# Altium footprint library LPC824+RC663.PcbLib: 34 footprints (part 2 of 3)
Each footprint in its own frame and in the unit in brackets; x right, y up, seen from the top. Pads: shape width x height; smd on the part's side, far side on the other; paste and mask are expansions set on the pad; w line width, h text height; cw(c..) or ccw(c..) is an arc to the next point about the centre after c.
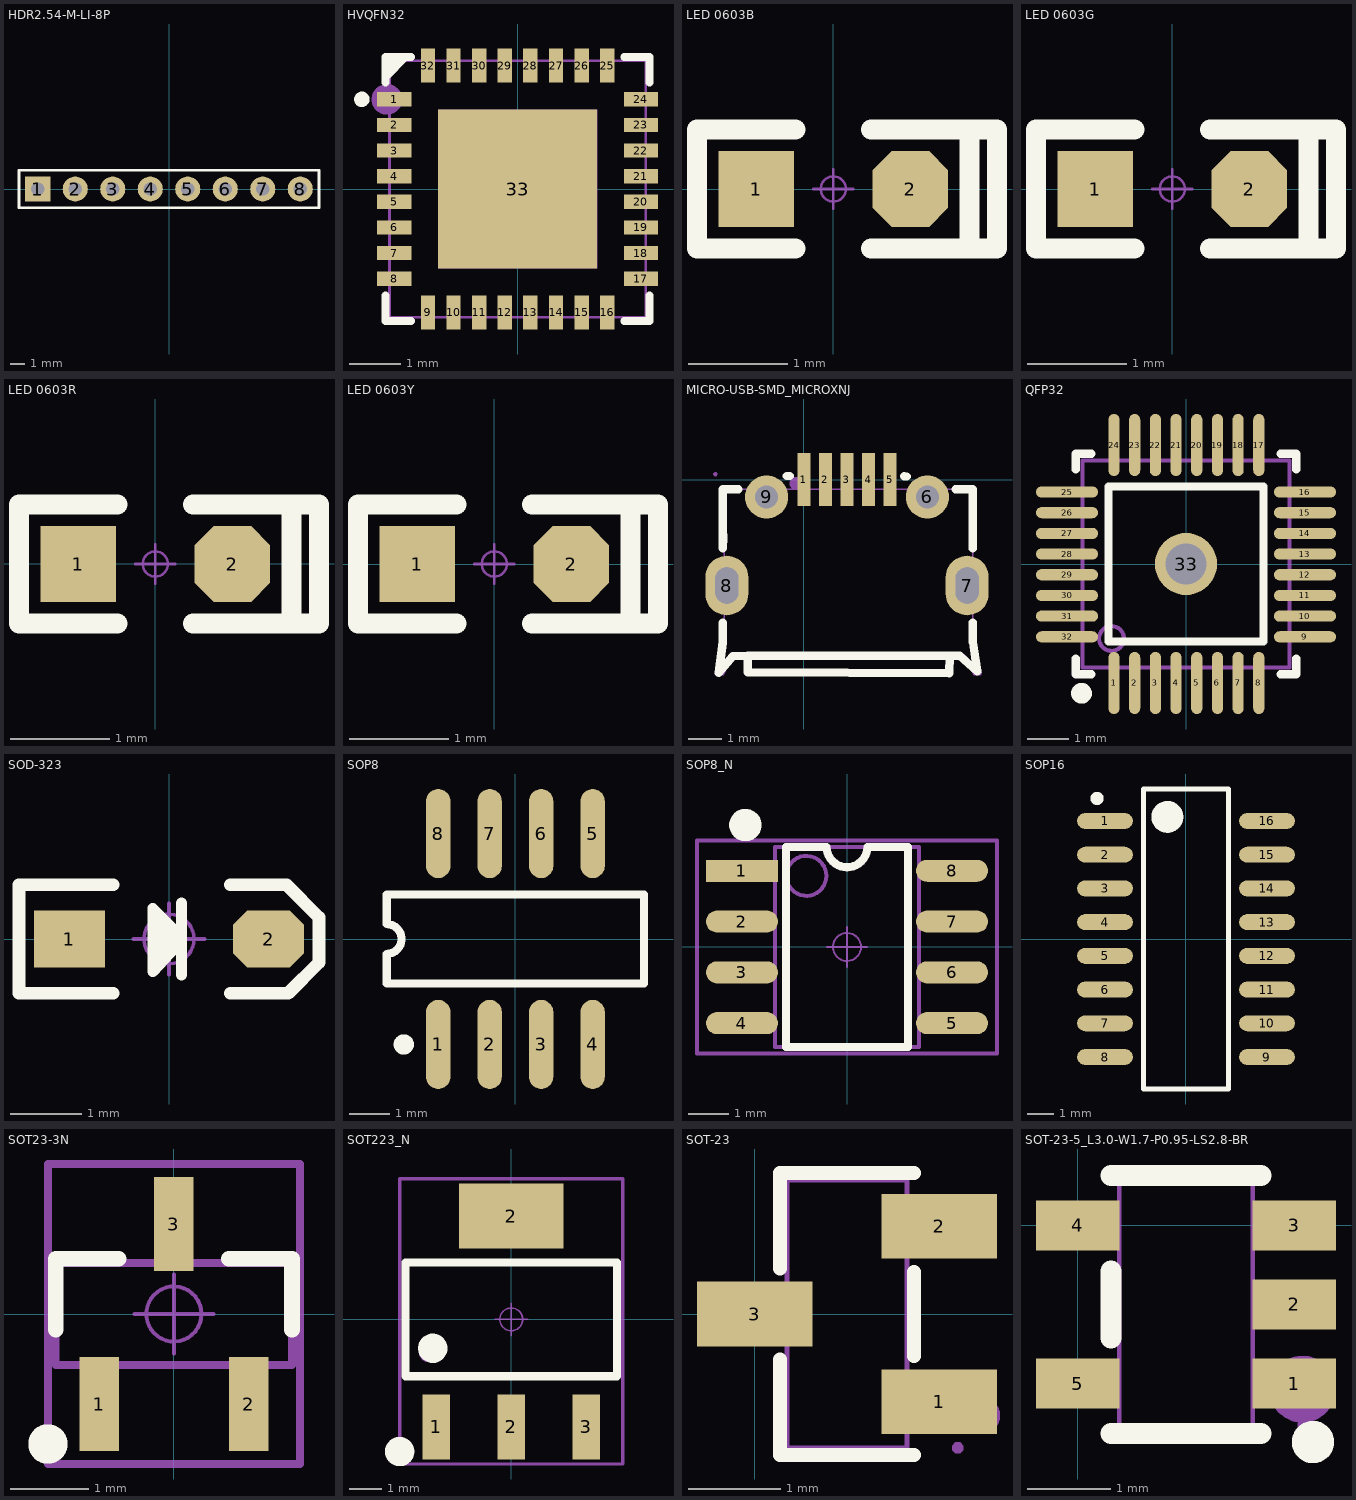
[diagram p1: the footprints below, top view; thin cyan lines are the x and y axes]

## HDR2.54-M-LI-8P [mm] "排母，8脚"
pads (8):
  rect 1.7x1.7 hole 0.9: 1(-8.89,0)
  round 1.7 hole 0.9: 2(-6.35,0) 3(-3.81,0) 4(-1.27,0) 5(1.27,0) 6(3.81,0) 7(6.35,0) 8(8.89,0)
Top Overlay:
  lines w0.2: -10.16,-1.27 -10.16,1.27 10.16,1.27 10.16,-1.27 -10.16,-1.27
3D body "HDR2.54-1P_M.STEP": height 8.5, standoff -3, extent 5.08,-1.27 7.62,1.27
3D body "HDR2.54-1P_M.STEP": height 8.5, standoff -3, extent 0,-1.27 2.54,1.27
3D body "HDR2.54-1P_M.STEP": height 8.5, standoff -3, extent -2.54,-1.27 0,1.27
3D body "HDR2.54-1P_M.STEP": height 8.5, standoff -3, extent 2.54,-1.27 5.08,1.27
3D body "HDR2.54-1P_M.STEP": height 8.5, standoff -3, extent -7.62,-1.27 -5.08,1.27
3D body "HDR2.54-1P_M.STEP": height 8.5, standoff -3, extent -10.16,-1.27 -7.62,1.27
3D body "HDR2.54-1P_M.STEP": height 8.5, standoff -3, extent -5.08,-1.27 -2.54,1.27
3D body "HDR2.54-1P_M.STEP": height 8.5, standoff -3, extent 7.62,-1.27 10.16,1.27

## HVQFN32 [mm]
pads (33):
  rect 0.665x0.28 smd paste-100 mask+0.051: 1(-2.407,1.75) 2(-2.407,1.25) 3(-2.407,0.75) 4(-2.407,0.25) 5(-2.407,-0.25) 6(-2.407,-0.75) 7(-2.407,-1.25) 8(-2.407,-1.75) 17(2.407,-1.75) 18(2.407,-1.25) 19(2.407,-0.75) 20(2.407,-0.25) 21(2.407,0.25) 22(2.407,0.75) 23(2.407,1.25) 24(2.407,1.75)
  rect 0.28x0.665 smd paste-100 mask+0.051: 9(-1.75,-2.407) 10(-1.25,-2.407) 11(-0.75,-2.407) 12(-0.25,-2.407) 13(0.25,-2.407) 14(0.75,-2.407) 15(1.25,-2.407) 16(1.75,-2.407) 25(1.75,2.407) 26(1.25,2.407) 27(0.75,2.407) 28(0.25,2.407) 29(-0.25,2.407) 30(-0.75,2.407) 31(-1.25,2.407) 32(-1.75,2.407)
  rect 3.1x3.1 smd paste-100 mask+0.051: 33(0,0)
Top Overlay:
  circle w0.15: c-3.04,1.75 r0.075
  region: -2.576,2.08 -2.08,2.576 -2.5,2.576 -2.576,2.5
  lines w0.152: -2.576,-2.08 -2.576,-2.576 -2.08,-2.576 ; -2.576,2.08 -2.576,2.576 -2.08,2.576 ; 2.08,-2.576 2.576,-2.576 2.576,-2.08 ; 2.08,2.576 2.576,2.576 2.576,2.08
Top Paste:
  drawing of 33 lines, arcs and shapes, not listed
Mechanical 6:
  circle w0.3: c-2.55,1.75 r0.15
Mechanical 15:
  drawing of 38 lines, arcs and shapes, not listed

## LED 0603B [mil] "蓝色0603LED"
pads (2):
  rect 30x30 smd: 1(-30.59,0)
  oct 30x30 smd: 2(30.59,0)
Top Overlay:
  lines w8: -15,-23.62 -54.13,-23.62 -54.13,23.62 -15,23.62 ; 15,-23.62 65,-23.62 65,23.62 15,23.62 ; 54.13,-23.62 54.13,23.62
Mechanical 15:
  circle w1: c0,0 r5
  lines w1: -7.87,0 7.87,0 ; 0,-7.87 0,7.88
3D body "LED 0603玻璃罩.STEP": height 23.82, standoff 8.07, extent -23.63,-15.75 23.62,15.75
3D body "LED 0603-B.STEP": height 18.36, standoff -0.16, extent -31.49,-15.78 31.5,15.79

## LED 0603G [mil] "绿色0603LED"
pads (2):
  rect 30x30 smd: 1(-30.59,0)
  oct 30x30 smd: 2(30.59,0)
Top Overlay:
  lines w8: -15,-23.62 -54.13,-23.62 -54.13,23.63 -15,23.63 ; 15,-23.62 65,-23.62 65,23.63 15,23.63 ; 54.14,-23.62 54.14,23.63
Mechanical 15:
  circle w1: c0,0 r5
  lines w1: -7.87,0 7.88,0 ; 0,-7.87 0,7.88
3D body "LED 0603玻璃罩.STEP": height 23.82, standoff 8.07, extent -23.62,-15.75 23.62,15.74
3D body "LED 0603-G.STEP": height 18.36, standoff -0.16, extent -31.49,-15.79 31.5,15.79

## LED 0603R [mil] "红色0603LED"
pads (2):
  rect 30x30 smd: 1(-30.59,0)
  oct 30x30 smd: 2(30.59,0)
Top Overlay:
  lines w8: -15.01,-23.63 -54.14,-23.63 -54.14,23.62 -15.01,23.62 ; 14.99,-23.63 65,-23.63 65,23.62 14.99,23.62 ; 54.13,-23.63 54.13,23.62
Mechanical 15:
  circle w1: c0,0 r5
  lines w1: -7.88,0 7.87,0 ; 0,-7.88 0,7.87
3D body "LED 0603玻璃罩.STEP": height 23.82, standoff 8.07, extent -23.63,-15.75 23.62,15.74
3D body "LED 0603-R.STEP": height 18.36, standoff -0.16, extent -31.49,-15.78 31.5,15.79

## LED 0603Y [mil] "黄色0603LED"
pads (2):
  rect 30x30 smd: 1(-30.59,0)
  oct 30x30 smd: 2(30.59,0)
Top Overlay:
  lines w8: -15,-23.62 -54.13,-23.62 -54.13,23.62 -15,23.62 ; 15,-23.62 65,-23.62 65,23.62 15,23.62 ; 54.13,-23.62 54.13,23.62
Mechanical 15:
  circle w1: c0,0 r5
  lines w1: -7.87,0 7.87,0 ; 0,-7.87 0,7.87
3D body "LED 0603-Y.STEP": height 18.36, standoff -0.16, extent -31.5,-16.04 31.5,15.54
3D body "LED 0603玻璃罩.STEP": height 23.82, standoff 8.07, extent -23.63,-15.75 23.62,15.74

## MICRO-USB-SMD_MICROXNJ [mm]
pads (9):
  rect 0.4x1.6 smd paste-100 mask+0.051: 1(0,0) 2(0.65,0) 3(1.3,0) 4(1.95,0) 5(2.6,0)
  round 1.3 hole 0.7: 6(3.725,-0.523) 9(-1.125,-0.523)
  oval 1.3x1.8 hole 0.7 slot 1.1 at 90 deg: 7(4.925,-3.193) 8(-2.325,-3.193)
Top Overlay:
  lines w0.254: -2.445,-4.316 -2.445,-4.912 -2.57,-5.826 -2.15,-5.331 -1.7,-5.311 ; -2.445,-2.07 -2.445,-0.286 -1.974,-0.286 ; -2.435,-1.872 -2.431,-1.664 ; -2.433,-1.872 -2.432,-1.697 ; -0.514,0.111 -0.431,0.11 ; 3.031,0.097 3.099,0.096 ; 4.574,-0.286 5.09,-0.286 5.09,-2.077 ; 5.09,-4.901 5.09,-4.308 ; 5.1,-4.901 5.23,-5.786 4.7,-5.311 4.4,-5.311 ; -1.7,-5.311 -1.7,-5.811 4.39,-5.841 4.4,-5.311 ; -1.7,-5.311 4.4,-5.311
Mechanical 6:
  circle w0.2: c-0.23,-0.118 r0.1
Mechanical 15:
  region: 2.475,-0.631 2.475,0.369 2.725,0.369 2.725,-0.631
  region: 1.825,-0.631 1.825,0.369 2.075,0.369 2.075,-0.631
  region: 1.175,-0.631 1.175,0.369 1.425,0.369 1.425,-0.631
  region: 0.525,-0.631 0.525,0.369 0.775,0.369 0.775,-0.631
  region: -0.125,-0.631 -0.125,0.369 0.125,0.369 0.125,-0.631
  region: 3.475,-0.623 3.475,-0.423 3.975,-0.423 3.975,-0.623
  region: -1.375,-0.623 -1.375,-0.423 -0.875,-0.423 -0.875,-0.623
  region: 4.775,-2.738 5.075,-2.738 5.075,-3.648 4.775,-3.648
  region: -2.475,-2.738 -2.175,-2.738 -2.175,-3.648 -2.475,-3.648
  region: -2.61,0.169 -2.61,0.194 -2.645,0.229 -2.695,0.229 -2.73,0.194 -2.73,0.169 -2.73,0.145 -2.695,0.109 -2.645,0.109 -2.61,0.145
  lines w0.051: -2.67,-5.878 -2.4,-5.278 -2.4,-0.298 -2.4,-0.288 5.09,-0.288 5.09,-5.268 5.35,-5.818 5.33,-5.878 5.13,-5.878 4.84,-5.288 4.45,-5.288 4.45,-5.888 -1.73,-5.878 -1.75,-5.878 -1.75,-5.288 -2.15,-5.288 -2.44,-5.888 -2.67,-5.878

## QFP32 [mm]
pads (33):
  oval 0.27x1.5 smd mask+0.051: 1(-1.74,-2.875) 2(-1.24,-2.875) 3(-0.74,-2.875) 4(-0.24,-2.875) 5(0.26,-2.875) 6(0.76,-2.875) 7(1.26,-2.875) 8(1.76,-2.875) 17(1.76,2.875) 18(1.26,2.875) 19(0.76,2.875) 20(0.26,2.875) 21(-0.24,2.875) 22(-0.74,2.875) 23(-1.24,2.875) 24(-1.74,2.875)
  oval 1.5x0.27 smd mask+0.051: 9(2.875,-1.76) 10(2.875,-1.26) 11(2.875,-0.76) 12(2.875,-0.26) 13(2.875,0.24) 14(2.875,0.74) 15(2.875,1.24) 16(2.875,1.74) 25(-2.875,1.74) 26(-2.875,1.24) 27(-2.875,0.74) 28(-2.875,0.24) 29(-2.875,-0.26) 30(-2.875,-0.76) 31(-2.875,-1.26) 32(-2.875,-1.76)
  round 1.5 hole 1: 33(0,0)
Top Overlay:
  circle w0.25: c-2.525,-3.125 r0.125
  lines w0.2: -2.667,-2.286 -2.667,-2.667 -2.286,-2.667 ; -2.667,2.286 -2.667,2.667 -2.286,2.667 ; 2.286,-2.667 2.667,-2.667 ; 2.286,2.667 2.667,2.667 2.667,2.286 ; 2.667,-2.65 2.667,-2.286 ; -1.875,-1.875 -1.875,1.875 1.875,1.875 1.875,-1.875 -1.875,-1.875
Mechanical 13:
  circle w0.1: c-1.8,-1.8 r0.3
  lines w0.1: -2.5,-2.5 2.5,-2.5 2.5,2.5 -2.5,2.5 -2.5,-2.5

## SOD-323 [mm] "1.8x1.3X0.9mm（长宽高，不包括引脚）"
pads (2):
  rect 1x0.8 smd: 1(-1.4,0)
  oct 1x0.8 smd: 2(1.4,0)
Top Overlay:
  lines w0.152: 0.178,-0.508 0.178,0.508 ; 0.178,-0.025 -0.229,-0.457 -0.229,0.432 0.178,0.025
  lines w0.178: -0.787,-0.762 -2.108,-0.762 -2.108,0.762 -0.787,0.762 ; 0.864,-0.762 1.676,-0.762 2.108,-0.33 2.108,0.305 1.651,0.762 0.864,0.762
  lines w0.254: -0.127,0.254 -0.152,-0.178 0.025,-0.025 -0.025,0.127
Mechanical 15:
  circle w0.05: c0,0 r0.35
  lines w0.05: -0.5,0 0.5,0 ; 0,-0.5 0,0.5
3D body "SOD-323.STEP": height 1, standoff 0.04, extent -1.337,-0.631 1.311,0.669

## SOP8 [mm] "Small Outline; 8 Leads; Body Width 4.3 mm; Pitch 1.27 mm"
height 1.5
pads (8):
  oval 0.6x2.2 smd: 1(-1.905,-2.6) 2(-0.635,-2.6) 3(0.635,-2.6) 4(1.905,-2.6) 5(1.905,2.6) 6(0.635,2.6) 7(-0.635,2.6) 8(-1.905,2.6)
Top Overlay:
  circle w0.25: c-2.755,-2.6 r0.125
  lines w0.2: -3.175,-1.1 -3.175,-0.367 ccw(c-3.175,0) -3.175,0.367 -3.175,1.1 3.175,1.1 3.175,-1.1 -3.175,-1.1
3D body "User Library-sop-8.STEP": height 1.6, standoff 0, extent -2.51,-3.021 2.51,3.021

## SOP8_N [mm] "5*6*1.8mm（长宽高）"
height 1.75
pads (8):
  rect 1.8x0.55 smd: 1(-2.625,1.905)
  oval 1.8x0.55 smd: 2(-2.625,0.635) 3(-2.625,-0.635) 4(-2.625,-1.905) 5(2.625,-1.905) 6(2.625,-0.635) 7(2.625,0.635) 8(2.625,1.905)
Top Overlay:
  circle w0.5: c-2.54,3.048 r0.155
  lines w0.2: -1.524,2.5 -1.524,-2.5 1.524,-2.5 1.524,2.5
  lines w0.203: -1.524,2.5 -0.508,2.5 ccw(c0,2.5) 0,1.992 ccw(c0,2.5) 0.508,2.5 1.524,2.5
Mechanical 13:
  circle w0.1: c-1.016,1.778 r0.5
  lines w0.1: -1.8,-2.5 -1.8,2.5 1.8,2.5 1.8,-2.5 -1.8,-2.5
Mechanical 15:
  circle w0.05: c0,0 r0.35
  lines w0.05: -0.5,0 0.5,0 ; 0,-0.5 0,0.5
  lines w0.1: -3.75,-2.667 3.75,-2.667 3.75,2.667 -3.75,2.667 -3.75,-2.667
3D body "SOP8.STEP": height 1.9, standoff 0, extent -3.003,-2.5 3.003,2.5

## SOP16 [mm] "16-Pin Small Outline Package 1.27 mm Pitch"
height 2.2
pads (16):
  oval 2.1x0.6 smd: 1(-3.05,4.445) 2(-3.05,3.175) 3(-3.05,1.905) 4(-3.05,0.635) 5(-3.05,-0.635) 6(-3.05,-1.905) 7(-3.05,-3.175) 8(-3.05,-4.445) 9(3.05,-4.445) 10(3.05,-3.175) 11(3.05,-1.905) 12(3.05,-0.635) 13(3.05,0.635) 14(3.05,1.905) 15(3.05,3.175) 16(3.05,4.445)
Top Overlay:
  circle w0.6: c-0.7,4.6 r0.3
  circle w0.25: c-3.35,5.295 r0.125
  lines w0.2: -1.6,-5.65 1.6,-5.65 1.6,5.65 -1.6,5.65 -1.6,-5.65
3D body "User Library-SO-16N.STEP": height 1.62, standoff 0, extent -3,-4.965 3,4.965

## SOT23-3N [mm] "3x1.3x1mm(长宽高)"
height 1.1
pads (3):
  rect 0.5x1.2 smd: 1(-0.95,-1.143) 2(0.95,-1.143) 3(0,1.143)
Top Overlay:
  circle w0.25: c-1.6,-1.651 r0.125
  lines w0.2: -1.501,-0.2 -1.501,0.7 -0.701,0.7 ; 0.699,0.7 1.499,0.7 1.499,-0.2
Mechanical 13:
  lines w0.1: -1.5,-0.65 1.5,-0.65 1.5,0.65 -1.5,0.65 -1.5,-0.65
Mechanical 15:
  circle w0.05: c0,0 r0.35
  lines w0.05: -0.5,0 0.5,0 ; 0,-0.5 0,0.5
  lines w0.1: -1.6,-1.905 1.6,-1.905 1.6,1.905 -1.6,1.905 -1.6,-1.905
3D body "SOT23-3.STEP": height 1.05, standoff 0, extent -1.5,-1.2 1.5,1.2

## SOT223_N [mm] "6.4x7x1.6mm(长宽高)"
height 1.7
pads (4):
  rect 0.85x2 smd: 1(-2.3,-3.302) 2(0,-3.302) 3(2.3,-3.302)
  rect 3.2x2 smd: 2(0,3.175)
Top Overlay:
  circle w0.5: c-2.413,-0.889 r0.2
  circle w0.5: c-3.429,-4.064 r0.2
  lines w0.25: -3.25,-1.75 -3.25,1.75 3.25,1.75 3.25,-1.75 -3.25,-1.75
Mechanical 13:
  circle w0.1: c-2.536,-1.016 r0.25
  lines w0.1: -3.25,-1.75 3.25,-1.75 3.25,1.75 -3.25,1.75 -3.25,-1.75
Mechanical 15:
  circle w0.05: c0,0 r0.35
  lines w0.05: -0.5,0 0.5,0 ; 0,-0.5 0,0.5
  lines w0.1: -3.429,-4.445 3.429,-4.445 3.429,4.318 -3.429,4.318 -3.429,-4.445
3D body "SOT223.STEP": height 1.65, standoff -0.02, extent -3.25,-3.508 3.25,3.508

## SOT-23 [mm]
pads (3):
  rect 1.25x0.7 smd: 1(2,-0.95) 2(2,0.95) 3(0,0)
Top Overlay:
  lines w0.152: 0.274,-0.495 0.274,-1.526 1.726,-1.526 ; 0.274,0.495 0.274,1.526 1.726,1.526 ; 1.726,-0.455 1.726,0.455
Mechanical 6:
  circle w0.2: c2.46,-1.1 r0.1
Mechanical 15:
  region: 2.26,-1.45 2.26,-1.425 2.225,-1.39 2.175,-1.39 2.14,-1.425 2.14,-1.45 2.14,-1.475 2.175,-1.51 2.225,-1.51 2.26,-1.475
  region: 1.64,0.735 1.64,1.165 1.91,1.165 1.91,0.735
  region: 1.9,0.735 1.9,1.165 2.2,1.165 2.2,0.735
  region: 1.64,-1.165 1.64,-0.735 1.91,-0.735 1.91,-1.165
  region: 1.9,-1.165 1.9,-0.735 2.2,-0.735 2.2,-1.165
  region: 0.09,-0.215 0.09,0.215 0.36,0.215 0.36,-0.215
  region: -0.2,-0.215 -0.2,0.215 0.1,0.215 0.1,-0.215
  lines w0.051: 0.35,-1.45 0.35,1.45 1.65,1.45 1.65,-1.45 0.35,-1.45

## SOT-23-5_L3.0-W1.7-P0.95-LS2.8-BR [mm]
pads (5):
  rect 1x0.6 smd: 1(2.6,-1.9) 2(2.6,-0.95) 3(2.6,0) 4(0,0) 5(0,-1.9)
Top Overlay:
  circle w0.254: c2.824,-2.601 r0.127
  lines w0.254: 0.4,-2.5 2.2,-2.5 ; 0.4,-1.35 0.4,-0.55 ; 0.4,0.6 2.2,0.6
Mechanical 6:
  circle w0.4: c2.697,-1.966 r0.2
Mechanical 15:
  region: 2.76,-2.4 2.76,-2.375 2.725,-2.34 2.675,-2.34 2.64,-2.375 2.64,-2.4 2.64,-2.425 2.675,-2.46 2.725,-2.46 2.76,-2.425
  region: 2.09,-2.1 2.09,-1.7 2.26,-1.7 2.26,-2.1
  region: 2.25,-2.1 2.25,-1.7 2.7,-1.7 2.7,-2.1
  region: 2.09,-1.15 2.09,-0.75 2.26,-0.75 2.26,-1.15
  region: 2.25,-1.15 2.25,-0.75 2.7,-0.75 2.7,-1.15
  region: 2.09,-0.2 2.09,0.2 2.26,0.2 2.26,-0.2
  region: 2.25,-0.2 2.25,0.2 2.7,0.2 2.7,-0.2
  region: 0.34,-0.2 0.34,0.2 0.51,0.2 0.51,-0.2
  region: -0.1,-0.2 -0.1,0.2 0.35,0.2 0.35,-0.2
  region: 0.34,-2.1 0.34,-1.7 0.51,-1.7 0.51,-2.1
  region: -0.1,-2.1 -0.1,-1.7 0.35,-1.7 0.35,-2.1
  lines w0.051: 0.5,-2.4 2.1,-2.4 2.1,0.5 0.5,0.5 0.5,-2.4